# Altium footprint library LT-R-7_L.PcbLib: 1 footprints
Each footprint in its own frame and in the unit in brackets; x right, y up, seen from the top. Pads: shape width x height; smd on the part's side, far side on the other; paste and mask are expansions set on the pad; w line width, h text height; cw(c..) or ccw(c..) is an arc to the next point about the centre after c.
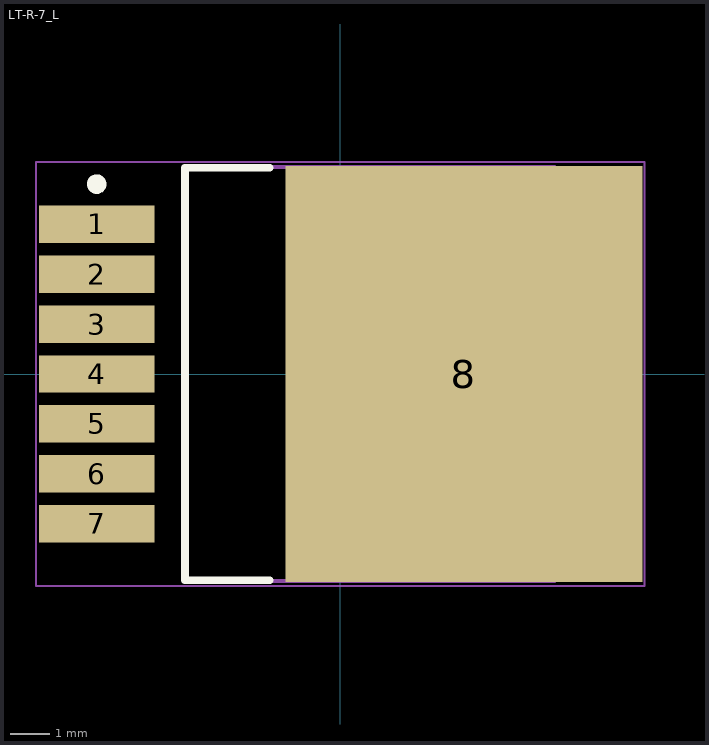
[diagram p0: the footprint, top view; thin cyan lines are the x and y axes]

## LT-R-7_L [mm] "DPAK, 7-Leads, Body 10.224x8.89mm, Pitch 1.27mm, IPC High Density"
height 4.58
pads (8):
  rect 2.95x0.95 smd: 1(-6.2,3.81) 2(-6.2,2.54) 3(-6.2,1.27) 4(-6.2,0) 5(-6.2,-1.27) 6(-6.2,-2.54) 7(-6.2,-3.81)
  rect 9.1x10.6 smd: 8(3.15,0)
Top Overlay:
  circle w0.25: c-6.2,4.835 r0.125
  lines w0.2: -1.8,-5.25 -3.95,-5.25 -3.95,5.25 -1.8,5.25
Mechanical 13:
  lines w0.1: -3.95,-5.275 -3.95,5.275 5.45,5.275 5.45,-5.275 -3.95,-5.275
Mechanical 15:
  lines w0.05: -7.75,-5.4 -7.75,5.4 7.75,5.4 7.75,-5.4 -7.75,-5.4
  lines w0.1: -0.5,0 0.5,0 ; 0,-0.5 0,0.5
3D body: height 4.58, standoff 0, extent -3.95,-5.275 5.45,5.275